# Altium footprint library BMS_Devices.PcbLib: 136 footprints (part 3 of 9)
Each footprint in its own frame and in the unit in brackets; x right, y up, seen from the top. Pads: shape width x height; smd on the part's side, far side on the other; paste and mask are expansions set on the pad; w line width, h text height; cw(c..) or ccw(c..) is an arc to the next point about the centre after c.
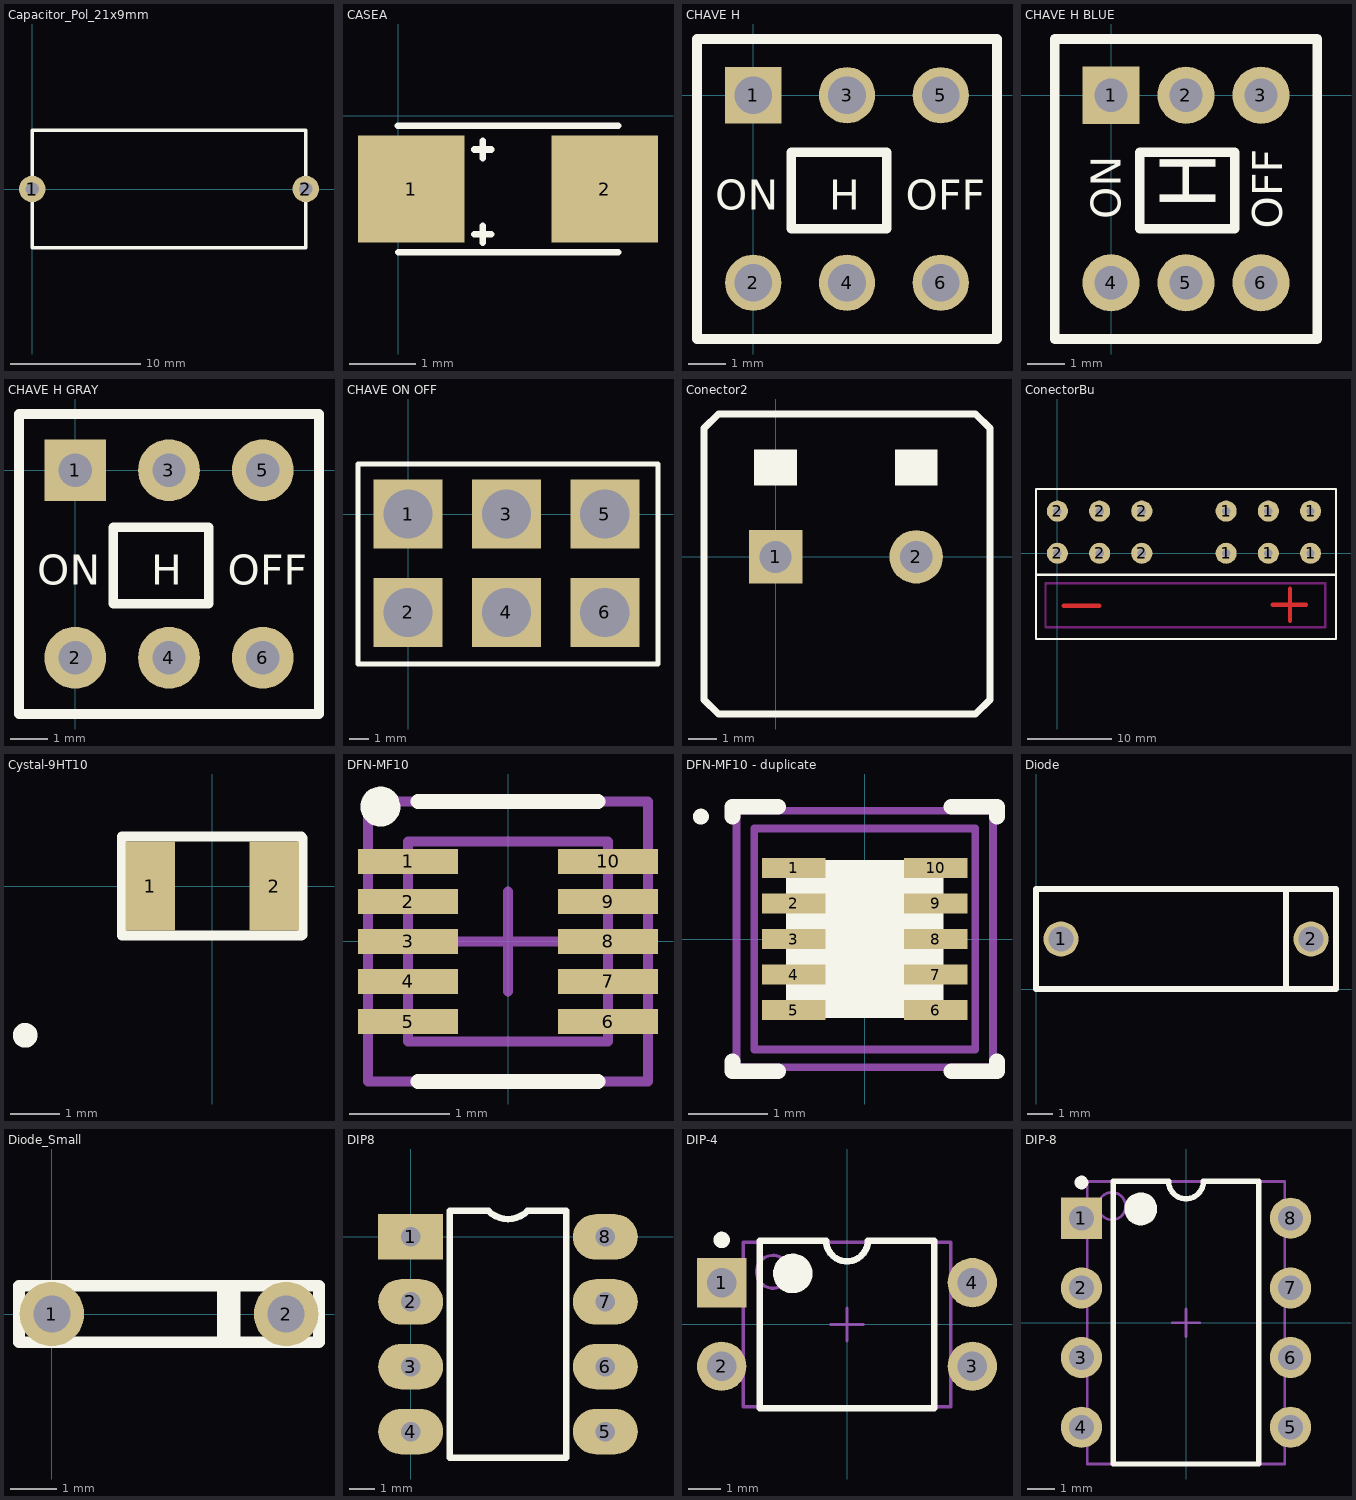
[diagram p2: the footprints below, top view; thin cyan lines are the x and y axes]

## Capacitor_Pol_21x9mm [mil]
pads (2):
  round 80 hole 40: 1(0,0) 2(826.77,0)
Top Overlay:
  lines w10: 0,-177.17 826.77,-177.17 826.77,177.17 0,177.17 0,-177.17
3D body: height 551.18, standoff 0, extent -5,-182.17 831.77,182.17

## CASEA [mm]
height 3.302
pads (2):
  rect 1.6x1.6 smd: 1(0.2,-1.1) 2(3.1,-1.1)
Top Overlay:
  lines w0.1: 0,-0.15 3.3,-0.15 ; 0.002,-2.05 3.302,-2.05 ; 1.143,-1.778 1.397,-1.778 ; 1.143,-0.508 1.397,-0.508 ; 1.27,-1.905 1.27,-1.651 ; 1.27,-0.635 1.27,-0.381

## CHAVE H [mm]
pads (6):
  rect 1.5x1.5 hole 1: 1(0,0)
  round 1.5 hole 1: 2(0,-5) 3(2.5,0) 4(2.5,-5) 5(5,0) 6(5,-5)
Top Overlay:
  lines w0.254: -1.5,-6.5 -1.5,1.5 6.5,1.5 6.5,-6.5 -1.5,-6.5 ; 1.016,-3.556 3.556,-3.556 3.556,-1.524 1.016,-1.524 1.016,-3.556
  text "OFF" at 4.064,-3.048 h0.8
  text "ON" at -1.016,-3.048 h0.8
  text "H" at 2.032,-3.048 h0.8

## CHAVE H BLUE [mil]
pads (6):
  rect 60x60 hole 35: 1(0,0)
  round 60 hole 35: 2(78.74,0) 3(157.48,0) 4(0,-196.85) 5(78.74,-196.85) 6(157.48,-196.85)
Top Overlay:
  lines w10: -59.06,-255.91 216.54,-255.91 216.54,59.06 -59.06,59.06 -59.06,-255.91 ; 30,-140 30,-60 130,-60 130,-140 30,-140
  text "H" at 110,-120 h59.06
  text "ON" at 10,-130 h31.5
  text "OFF" at 180,-140 h31.5

## CHAVE H GRAY [mil]
pads (6):
  rect 65x65 hole 35: 1(0,0)
  round 65 hole 35: 2(0,-196.85) 3(98.42,0) 4(98.42,-196.85) 5(196.85,0) 6(196.85,-196.85)
Top Overlay:
  lines w10: -59.06,-255.91 255.91,-255.91 255.91,59.06 -59.06,59.06 -59.06,-255.91 ; 40,-140 40,-60 140,-60 140,-140 40,-140
  text "H" at 80,-120 h31.5
  text "ON" at -40,-120 h31.5
  text "OFF" at 160,-120 h31.5

## CHAVE ON OFF [mm]
pads (6):
  rect 3.5x3.5 hole 2.5: 1(0,0) 2(0,-5) 3(5,0) 4(5,-5) 5(10,0) 6(10,-5)
Top Overlay:
  lines w0.254: -2.54,-7.62 -2.54,2.54 12.7,2.54 12.7,-7.62 -2.54,-7.62

## Conector2 [mil]
pads (2):
  rect 75x75 hole 45: 1(0,0)
  round 75 hole 45: 2(196.85,0)
Top Overlay:
  rectangle: 166.85,100 226.85,150
  rectangle: -30,100 30,150
  lines w10: -100,-200 -80,-220 280,-220 300,-200 300,-70 300,70 300,180 280,200 -80,200 -100,180 -100,80 -100,-60 -100,-200

## ConectorBu [mm]
pads (12):
  round 2.5 hole 1: 1(20,0) 1(20,5) 1(25,0) 1(25,5) 1(30,0) 1(30,5) 2(0,0) 2(0,5) 2(5,0) 2(5,5) 2(10,0) 2(10,5)
Top Layer:
  lines w0.5: 0.762,-6.223 4.953,-6.223 ; 25.527,-6.096 29.464,-6.096 ; 27.559,-8.001 27.559,-4.191
Top Overlay:
  lines w0.254: -2.54,-2.54 33.02,-2.54 ; -2.54,-2.54 -2.54,-10.16 33.02,-10.16 33.02,-2.54 ; -2.54,-2.54 -2.54,7.62 33.02,7.62 33.02,-2.54
Keep-Out Layer:
  lines w0.254: -1.397,-8.763 -1.397,-3.556 31.75,-3.556 31.75,-8.763 -1.397,-8.763

## Cystal-9HT10 [mm] "Surface Mount Quartz Crystal; Body 8.2 x 4.7 mm (LxW max)"
height 1.8
pads (2):
  rect 1x1.8 smd: 1(-1.25,0) 2(1.25,0)
Top Overlay:
  circle w0.25: c-3.775,-3.011 r0.125
  lines w0.2: 1.8,-1 -1.829,-1 -1.829,1 1.8,1 ; 1.816,-0.991 1.816,0.969

## DFN-MF10 [mm] "SON, 10-Leads, Body 3x3mm, Pitch 0.5mm, Microchip Recommended"
height 1
pads (10):
  rect 1x0.25 smd: 1(-1,0.8) 2(-1,0.4) 3(-1,0) 4(-1,-0.4) 5(-1,-0.8) 6(1,-0.8) 7(1,-0.4) 8(1,0) 9(1,0.4) 10(1,0.8)
Top Overlay:
  lines w0.15: -0.9,-1.4 0.9,-1.4 ; -0.9,1.4 0.9,1.4
  lines w0.2: -1.192,1.405 ccw(c-1.275,1.35) -1.175,1.35
Mechanical 13:
  lines w0.1: -1.4,-1.4 -1.4,1.4 1.4,1.4 1.4,-1.4 -1.4,-1.4
Mechanical 15:
  lines w0.1: -0.5,0 0.5,0 ; 0,-0.5 0,0.5 ; -1,-1 1,-1 1,1 -1,1 -1,-1
3D body: height 1, standoff 0, extent -1.346,-1.346 1.346,1.346

## DFN-MF10 - duplicate [mm] "SON, 10-Leads, Body 3x3mm, Pitch 0.5mm, Microchip Recommended"
height 1
pads (10):
  rect 0.8x0.25 smd: 1(-0.9,0.9) 2(-0.9,0.45) 3(-0.9,0) 4(-0.9,-0.45) 5(-0.9,-0.9) 6(0.9,-0.9) 7(0.9,-0.45) 8(0.9,0) 9(0.9,0.45) 10(0.9,0.9)
Top Overlay:
  circle w0.1: c-2.075,1.55 r0.05
  rectangle: -1,-1 1,1
  lines w0.2: -1.675,-1.55 -1.675,-1.675 -1.1,-1.675 ; -1.675,1.55 -1.675,1.675 -1.1,1.675 ; 1.1,-1.675 1.675,-1.675 1.675,-1.55 ; 1.1,1.675 1.675,1.675 1.675,1.55
Mechanical 13:
  lines w0.1: -1.4,-1.4 -1.4,1.4 1.4,1.4 1.4,-1.4 -1.4,-1.4
Mechanical 15:
  lines w0.1: -0.5,0 0.5,0 ; 0,-0.5 0,0.5 ; -1.625,-1.625 1.625,-1.625 1.625,1.625 -1.625,1.625 -1.625,-1.625
3D body: height 1, standoff 0, extent -1.346,-1.346 1.346,1.346

## Diode [mm]
pads (2):
  round 1.4 hole 1: 1(1,2) 2(11,2)
Top Overlay:
  lines w0.254: 10,0 10,4 ; 0,0 12,0 12,4 0,4 0,0

## Diode_Small [mm]
pads (2):
  round 1.4 hole 0.8: 1(0,0) 2(5.08,0)
Top Overlay:
  lines w0.254: -0.711,0.61 -0.711,-0.61 5.791,-0.61 5.791,0.61 -0.686,0.61
  lines w0.5: 3.835,-0.483 3.835,0.483

## DIP8 [mil]
pads (8):
  rect 100x70 hole 30: 1(0,0)
  oval 100x70 hole 30: 2(0,-100) 3(0,-200) 4(0,-300) 5(300,-300) 6(300,-200) 7(300,-100) 8(300,0)
Top Overlay:
  lines w10: 60,-340 60,40 120,40 ccw(c150,70) 180,40 240,40 240,-340 60,-340

## DIP-4 [mm] "DIP; 4 Leads; Row Spacing 7.62 mm; Pitch 2.54 mm"
height 5.6
pads (4):
  rect 1.5x1.5 hole 0.9: 1(-3.81,1.27)
  round 1.5 hole 0.9: 2(-3.81,-1.27) 3(3.81,-1.27) 4(3.81,1.27)
Top Overlay:
  circle w0.6: c-1.65,1.55 r0.3
  circle w0.25: c-3.81,2.57 r0.125
  lines w0.2: -2.65,-2.55 2.65,-2.55 2.65,2.55 0.635,2.55 cw(c0,2.55) -0.635,2.55 -2.65,2.55 -2.65,-2.55
Mechanical 13:
  circle w0.1: c-2.25,1.6 r0.5
  lines w0.1: -3.15,-2.5 3.15,-2.5 3.15,2.5 -3.15,2.5 -3.15,-2.5
Mechanical 15:
  lines w0.1: -0.5,0 0.5,0 ; 0,-0.5 0,0.5
3D body: height 5.6, standoff 0, extent -3.15,-2.5 3.15,2.5

## DIP-8 [mm] "DIP; 8 Leads; Row Spacing 7.62 mm; Pitch 2.54 mm"
height 5.08
pads (8):
  rect 1.5x1.5 hole 0.9: 1(-3.81,3.81)
  round 1.5 hole 0.9: 2(-3.81,1.27) 3(-3.81,-1.27) 4(-3.81,-3.81) 5(3.81,-3.81) 6(3.81,-1.27) 7(3.81,1.27) 8(3.81,3.81)
Top Overlay:
  circle w0.6: c-1.65,4.15 r0.3
  circle w0.25: c-3.81,5.11 r0.125
  lines w0.2: -2.65,-5.15 2.65,-5.15 2.65,5.15 0.635,5.15 cw(c0,5.15) -0.635,5.15 -2.65,5.15 -2.65,-5.15
Mechanical 13:
  circle w0.1: c-2.7,4.25 r0.5
  lines w0.1: -3.6,-5.15 3.6,-5.15 3.6,5.15 -3.6,5.15 -3.6,-5.15
Mechanical 15:
  lines w0.1: -0.5,0 0.5,0 ; 0,-0.5 0,0.5
3D body: height 5.08, standoff 0, extent -3.6,-5.15 3.6,5.15